# EAGLE library part IDG500_DUAL_GYRO (library Gyros)
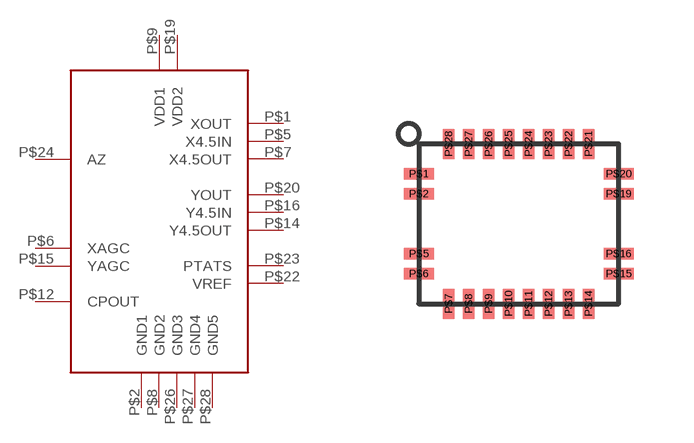
[diagram p2: symbol with the pads of QFN4X5_28; footprint QFN4X5_28]

Designator prefix -

## IDG500_DUAL_GYROQFN  [QFN4X5_28]
P$1  XOUT
P$2  GND1
P$5  X4.5IN
P$6  XAGC
P$7  X4.5OUT
P$8  GND2
P$9  VDD1
P$12  CPOUT
P$14  Y4.5OUT
P$15  YAGC
P$16  Y4.5IN
P$19  VDD2
P$20  YOUT
P$22  VREF
P$23  PTATS
P$24  AZ
P$26  GND3
P$27  GND4
P$28  GND5

## Footprint QFN4X5_28 (pad centres in mm)
smd 0.75 x 0.28: P$1 -2.5,1.25; P$2 -2.5,0.75; P$5 -2.5,-0.75; P$6 -2.5,-1.25; P$15 2.5,-1.25; P$16 2.5,-0.75; P$19 2.5,0.75; P$20 2.5,1.25
smd 0.28 x 0.75: P$7 -1.75,-2; P$8 -1.25,-2; P$9 -0.75,-2; P$10 -0.25,-2; P$11 0.25,-2; P$12 0.75,-2; P$13 1.25,-2; P$14 1.75,-2; P$21 1.75,2; P$22 1.25,2; P$23 0.75,2; P$24 0.25,2; P$25 -0.25,2; P$26 -0.75,2; P$27 -1.25,2; P$28 -1.75,2